# Altium schematic symbol library 031-5640-1010.SchLib: 1 symbol
Pins are listed as number, name and electrical type; pins without a type are passive.

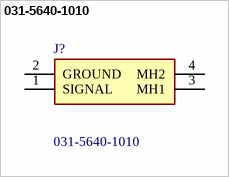
[diagram p0: symbol 031-5640-1010]

## 031-5640-1010
designator J?
BNC Connector Jack, Female Socket 50 Ohms Panel Mount, Through Hole, Right Angle Solder; Manufacturer_Name: Amphenol RF; Geometry.Height: 15.9mm; Mouser Part Number: 523-31-5640-1010; Mouser Price/Stock: https://www.mouser.co.uk/ProductDetail/Amphenol-RF/031-5640-1010?qs=py4qCovljJ8AWoJP%2FInlhw%3D%3D; Manufacturer_Part_Number: 031-5640-1010; Datasheet Link: https://www.amphenolrf.com/library/download/link/link_id/594408/parent/031-5640-1010/
footprint 03156401010
pins: 1 SIGNAL, 2 GROUND, 3 MH1, 4 MH2